# EAGLE library part CP8051F120 (library silicon-labs)
MICROCONTROLLER Mixed Signal ISP Flash MCU Family C8051F120/1/2/3/4/5/6/7
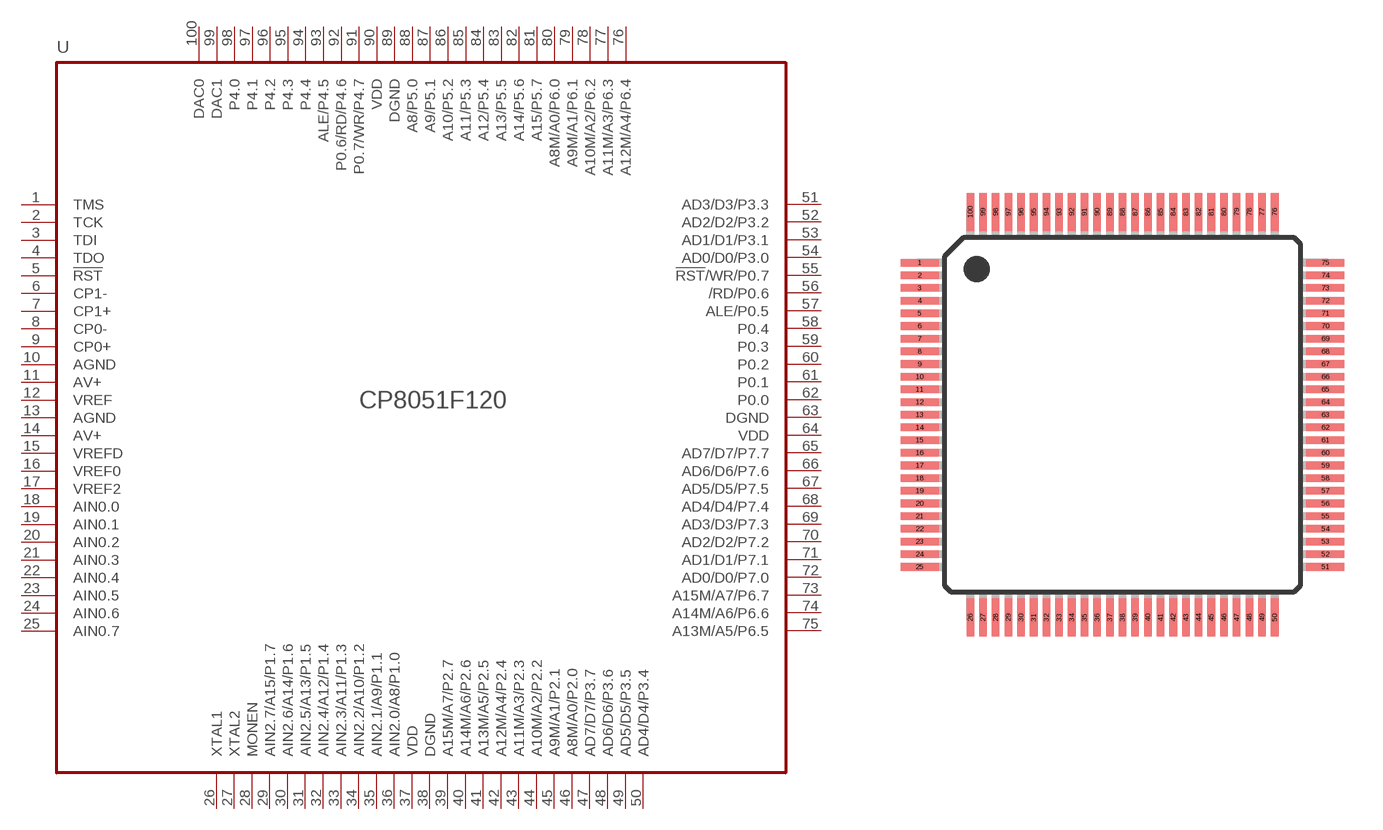
[diagram p1: symbol with the pads of TQFP100; footprint TQFP100]

Designator prefix U

## CP8051F120  [TQFP100]
1  TMS  in
2  TCK  in
3  TDI  in
4  TDO  out
5  !RST!
6  CP1-
7  CP1+
8  CP0-
9  CP0+
10  AGND  pwr
11  AV+  pwr
12  VREF
13  AGND  pwr
14  AV+  pwr
15  VREFD
16  VREF0
17  VREF2
18  AIN0.0
19  AIN0.1
20  AIN0.2
21  AIN0.3
22  AIN0.4
23  AIN0.5
24  AIN0.6
25  AIN0.7
26  XTAL1  in
27  XTAL2  out
28  MONEN  in
29  AIN2.7/A15/P1.7
30  AIN2.6/A14/P1.6
31  AIN2.5/A13/P1.5
32  AIN2.4/A12/P1.4
33  AIN2.3/A11/P1.3
34  AIN2.2/A10/P1.2
35  AIN2.1/A9/P1.1
36  AIN2.0/A8/P1.0
37  VDD  pwr
38  DGND  pwr
39  A15M/A7/P2.7
40  A14M/A6/P2.6
41  A13M/A5/P2.5
42  A12M/A4/P2.4
43  A11M/A3/P2.3
44  A10M/A2/P2.2
45  A9M/A1/P2.1
46  A8M/A0/P2.0
47  AD7/D7/P3.7
48  AD6/D6/P3.6
49  AD5/D5/P3.5
50  AD4/D4/P3.4
51  AD3/D3/P3.3
52  AD2/D2/P3.2
53  AD1/D1/P3.1
54  AD0/D0/P3.0
55  !RST!/WR/P0.7
56  /RD/P0.6
57  ALE/P0.5
58  P0.4
59  P0.3
60  P0.2
61  P0.1
62  P0.0
63  DGND  pwr
64  VDD  pwr
65  AD7/D7/P7.7
66  AD6/D6/P7.6
67  AD5/D5/P7.5
68  AD4/D4/P7.4
69  AD3/D3/P7.3
70  AD2/D2/P7.2
71  AD1/D1/P7.1
72  AD0/D0/P7.0
73  A15M/A7/P6.7
74  A14M/A6/P6.6
75  A13M/A5/P6.5
76  A12M/A4/P6.4
77  A11M/A3/P6.3
78  A10M/A2/P6.2
79  A9M/A1/P6.1
80  A8M/A0/P6.0
81  A15/P5.7
82  A14/P5.6
83  A13/P5.5
84  A12/P5.4
85  A11/P5.3
86  A10/P5.2
87  A9/P5.1
88  A8/P5.0
89  DGND  pwr
90  VDD  pwr
91  P0.7/WR/P4.7
92  P0.6/RD/P4.6
93  ALE/P4.5
94  P4.4
95  P4.3
96  P4.2
97  P4.1
98  P4.0
99  DAC1  out
100  DAC0  out

## Footprint TQFP100 (pad centres in mm)
Plastic Thin Quad Flat Pack
smd 1.5 x 0.3: 1 -8,6; 2 -8,5.5; 3 -8,5; 4 -8,4.5; 5 -8,4; 6 -8,3.5; 7 -8,3; 8 -8,2.5; 9 -8,2; 10 -8,1.5; 11 -8,1; 12 -8,0.5; 13 -8,0; 14 -8,-0.5; 15 -8,-1; 16 -8,-1.5; 17 -8,-2; 18 -8,-2.5; 19 -8,-3; 20 -8,-3.5; 21 -8,-4; 22 -8,-4.5; 23 -8,-5; 24 -8,-5.5; 25 -8,-6; 51 8,-6; 52 8,-5.5; 53 8,-5; 54 8,-4.5; 55 8,-4; 56 8,-3.5; 57 8,-3; 58 8,-2.5; 59 8,-2; 60 8,-1.5; 61 8,-1; 62 8,-0.5; 63 8,0; 64 8,0.5; 65 8,1; 66 8,1.5; 67 8,2; 68 8,2.5; 69 8,3; 70 8,3.5; 71 8,4; 72 8,4.5; 73 8,5; 74 8,5.5; 75 8,6
smd 0.3 x 1.5: 26 -6,-8; 27 -5.5,-8; 28 -5,-8; 29 -4.5,-8; 30 -4,-8; 31 -3.5,-8; 32 -3,-8; 33 -2.5,-8; 34 -2,-8; 35 -1.5,-8; 36 -1,-8; 37 -0.5,-8; 38 0,-8; 39 0.5,-8; 40 1,-8; 41 1.5,-8; 42 2,-8; 43 2.5,-8; 44 3,-8; 45 3.5,-8; 46 4,-8; 47 4.5,-8; 48 5,-8; 49 5.5,-8; 50 6,-8; 76 6,8; 77 5.5,8; 78 5,8; 79 4.5,8; 80 4,8; 81 3.5,8; 82 3,8; 83 2.5,8; 84 2,8; 85 1.5,8; 86 1,8; 87 0.5,8; 88 0,8; 89 -0.5,8; 90 -1,8; 91 -1.5,8; 92 -2,8; 93 -2.5,8; 94 -3,8; 95 -3.5,8; 96 -4,8; 97 -4.5,8; 98 -5,8; 99 -5.5,8; 100 -6,8